# Altium footprint library DO-220AA.PcbLib: 1 footprints
Each footprint in its own frame and in the unit in brackets; x right, y up, seen from the top. Pads: shape width x height; smd on the part's side, far side on the other; paste and mask are expansions set on the pad; w line width, h text height; cw(c..) or ccw(c..) is an arc to the next point about the centre after c.
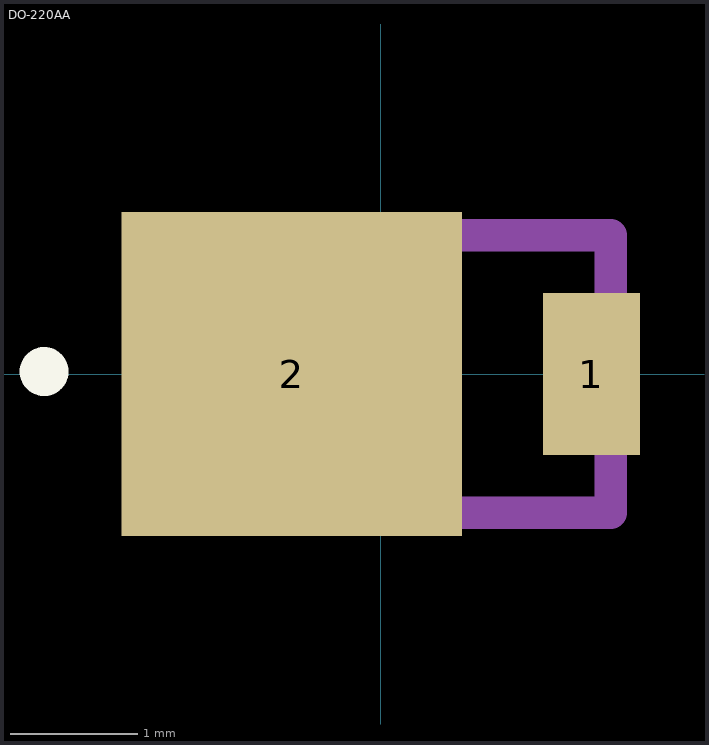
[diagram p0: the footprint, top view; thin cyan lines are the x and y axes]

## DO-220AA [mil]
pads (2):
  rect 30x50 smd: 1(65.06,0)
  rect 105.12x100 smd: 2(-27.5,0)
L26-Silk Screen Top (Multiple PADS layers...):
  circle w10: c-104.06,0.75 r2.55
L15 (Multiple PADS layers...):
  lines w10: -71.06,-42.91 -71.06,42.91 71.06,42.91 71.06,-42.91 -71.06,-42.91
3D body "SMP Package.STEP": height 39.37, standoff 0, extent -75.79,-40 75.79,39.93